# EAGLE library part SI472X (library silabs)
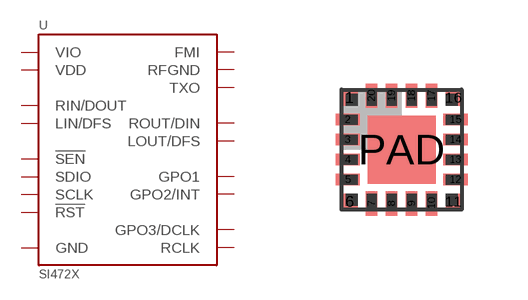
[diagram p6: symbol with the pads of QFN20; footprint QFN20]

Designator prefix -

## SI472X  [QFN20]
2  FMI
3  RFGND
4  TXO
5  !RST
6  !SEN
7  SCLK
8  SDIO
9  RCLK
10  VIO
11  VDD
12  GND
13  ROUT/DIN
14  LOUT/DFS
15  RIN/DOUT
16  LIN/DFS
17  GPO3/DCLK
18  GPO2/INT
19  GPO1
PAD  GND

## Footprint QFN20 (pad centres in mm)
smd 0.4 x 0.4: 1 -1.3,1.3; 6 -1.3,-1.3; 11 1.3,-1.3; 16 1.3,1.3
smd 0.61 x 0.28: 2 -1.345,0.75; 3 -1.345,0.25; 4 -1.345,-0.25; 5 -1.345,-0.75; 12 1.345,-0.75; 13 1.345,-0.25; 14 1.345,0.25; 15 1.345,0.75
smd 0.28 x 0.61: 7 -0.75,-1.345; 8 -0.25,-1.345; 9 0.25,-1.345; 10 0.75,-1.345; 17 0.75,1.345; 18 0.25,1.345; 19 -0.25,1.345; 20 -0.75,1.345
smd 1.7 x 1.7: PAD 0,0